# Altium footprint library ic.PcbLib: 23 footprints (part 2 of 2)
Each footprint in its own frame and in the unit in brackets; x right, y up, seen from the top. Pads: shape width x height; smd on the part's side, far side on the other; paste and mask are expansions set on the pad; w line width, h text height; cw(c..) or ccw(c..) is an arc to the next point about the centre after c.
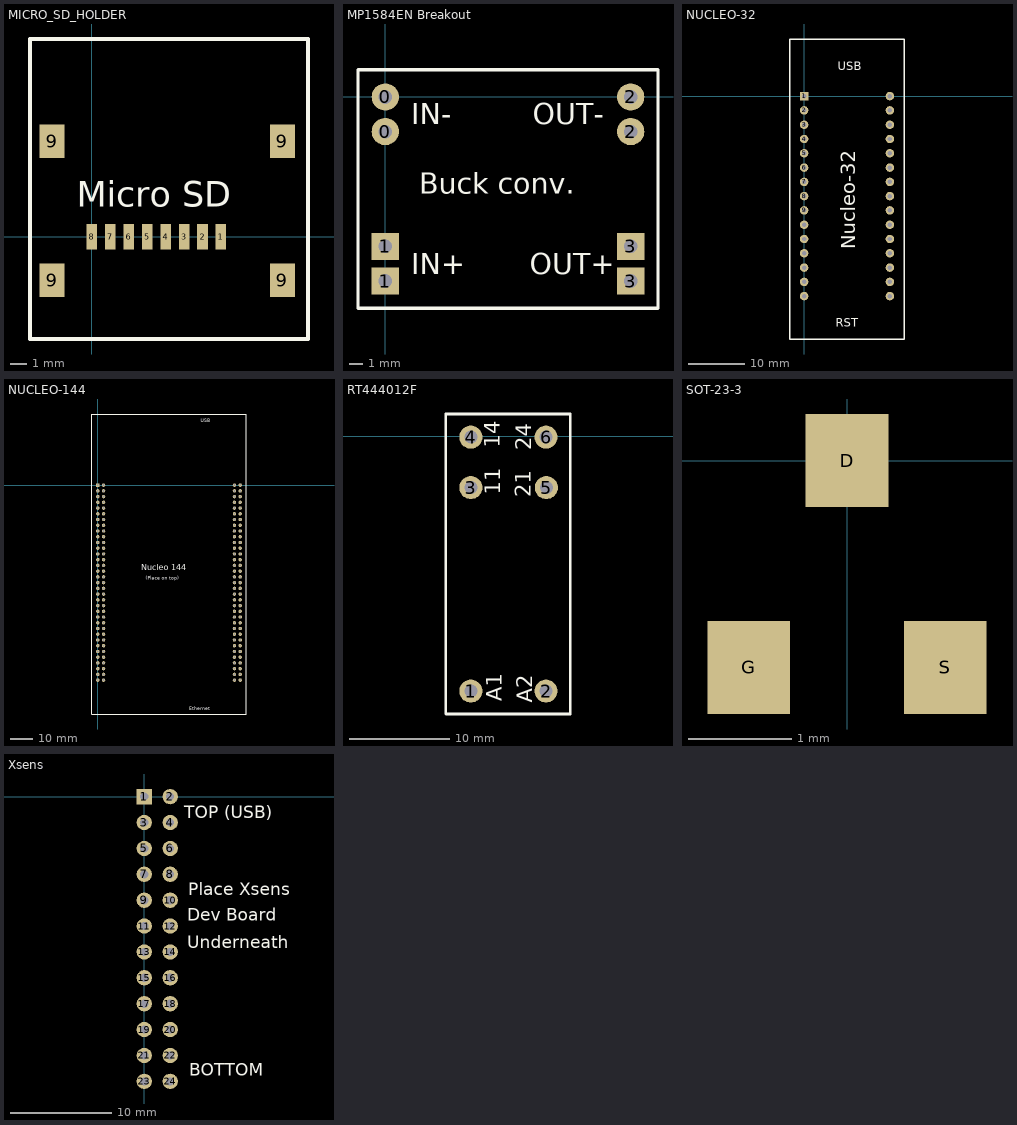
[diagram p1: the footprints below, top view; thin cyan lines are the x and y axes]

## MICRO_SD_HOLDER [mm]
height 1.9
pads (12):
  rect 0.63x1.5 smd: 1(7.7,0) 2(6.6,0) 3(5.5,0) 4(4.4,0) 5(3.3,0) 6(2.2,0) 7(1.1,0) 8(0,0)
  rect 1.5x2 smd: 9(-2.38,-2.6) 9(-2.38,5.7) 9(11.37,-2.6) 9(11.37,5.7)
Top Overlay:
  lines w0.254: -3.7,-6.1 -3.7,11.8 12.9,11.8 12.9,-6.1 -3.7,-6.1
  text "Micro SD" at -0.9,1.8 h1.52
Mechanical 1:
  lines w0.254: -3.7,-4.2 -3.7,-4.1

## MP1584EN Breakout [mm] "Buck Converter"
height 4
pads (8):
  round 2 hole 1: 0(0,-2.54) 0(0,0) 2(18,-2.54) 2(18,0)
  rect 2x2 hole 1: 1(0,-13.5) 1(0,-10.96) 3(18,-13.5) 3(18,-10.96)
Top Overlay:
  lines w0.254: -2,-15.5 -2,2 20,2 20,-15.5 -2,-15.5
  text "Buck conv." at 2.5,-7.1 h1.52
  text "IN-" at 1.9,-2 h1.52
  text "OUT-" at 10.8,-2 h1.52
  text "IN+" at 1.9,-13 h1.52
  text "OUT+" at 10.6,-13 h1.52

## NUCLEO-32 [mm]
pads (30):
  rect 1.5x1.5 hole 0.8: 1(0,0)
  round 1.5 hole 0.8: 2(0,-2.54) 3(0,-5.08) 4(0,-7.62) 5(0,-10.16) 6(0,-12.7) 7(0,-15.24) 8(0,-17.78) 9(0,-20.32) 10(0,-22.86) 11(0,-25.4) 12(0,-27.94) 13(0,-30.48) 14(0,-33.02) 15(0,-35.56) 16(15.24,-35.56) 17(15.24,-33.02) 18(15.24,-30.48) 19(15.24,-27.94) 20(15.24,-25.4) 21(15.24,-22.86) 22(15.24,-20.32) 23(15.24,-17.78) 24(15.24,-15.24) 25(15.24,-12.7) 26(15.24,-10.16) 27(15.24,-7.62) 28(15.24,-5.08) 29(15.24,-2.54) 30(15.24,0)
Top Overlay:
  lines w0.254: -2.54,-43.18 17.78,-43.18 17.78,10.16 -2.54,10.16 -2.54,-43.18
  text "Nucleo-32" at 9.1,-27.2 h2.54
  text "RST" at 5.6,-41 h1.52
  text "USB" at 6,4.6 h1.52
3D body "P3EL-P-008-Nucleo32PCBONLY.stp": height 5, standoff -2.62, extent -1.671,-40.6 16.871,9.692

## NUCLEO-144 [mm]
pads (140):
  rect 1.5x1.5 hole 0.8: 1(0,0)
  round 1.5 hole 0.8: 2(0,-2.54) 3(0,-5.08) 4(0,-7.62) 5(0,-10.16) 6(0,-12.7) 7(0,-15.24) 8(0,-17.78) 9(0,-20.32) 10(0,-22.86) 11(0,-25.4) 12(0,-27.94) 13(0,-30.48) 14(0,-33.02) 15(0,-35.56) 16(0,-38.1) 17(0,-40.64) 18(0,-43.18) 19(0,-45.72) 20(0,-48.26) 21(0,-50.8) 22(0,-53.34) 23(0,-55.88) 24(0,-58.42) 25(0,-60.96) 26(0,-63.5) 27(0,-66.04) 28(0,-68.58) 29(0,-71.12) 30(0,-73.66) 31(0,-76.2) 32(0,-78.74) 33(0,-81.28) 34(0,-83.82) 35(0,-86.36) 36(2.54,-86.36) 37(2.54,-83.82) 38(2.54,-81.28) 39(2.54,-78.74) 40(2.54,-76.2) 41(2.54,-73.66) 42(2.54,-71.12) 43(2.54,-68.58) 44(2.54,-66.04) 45(2.54,-63.5) 46(2.54,-60.96) 47(2.54,-58.42) 48(2.54,-55.88) 49(2.54,-53.34) 50(2.54,-50.8) 51(2.54,-48.26) 52(2.54,-45.72) 53(2.54,-43.18) 54(2.54,-40.64) 55(2.54,-38.1) 56(2.54,-35.56) 57(2.54,-33.02) 58(2.54,-30.48) 59(2.54,-27.94) 60(2.54,-25.4) 61(2.54,-22.86) 62(2.54,-20.32) 63(2.54,-17.78) 64(2.54,-15.24) 65(2.54,-12.7) 66(2.54,-10.16) 67(2.54,-7.62) 68(2.54,-5.08) 69(2.54,-2.54) 70(2.54,0) 71(60.5,0) 72(60.5,-2.54) 73(60.5,-5.08) 74(60.5,-7.62) 75(60.5,-10.16) 76(60.5,-12.7) 77(60.5,-15.24) 78(60.5,-17.78) 79(60.5,-20.32) 80(60.5,-22.86) 81(60.5,-25.4) 82(60.5,-27.94) 83(60.5,-30.48) 84(60.5,-33.02) 85(60.5,-35.56) 86(60.5,-38.1) 87(60.5,-40.64) 88(60.5,-43.18) 89(60.5,-45.72) 90(60.5,-48.26) 91(60.5,-50.8) 92(60.5,-53.34) 93(60.5,-55.88) 94(60.5,-58.42) 95(60.5,-60.96) 96(60.5,-63.5) 97(60.5,-66.04) 98(60.5,-68.58) 99(60.5,-71.12) 100(60.5,-73.66) 101(60.5,-76.2) 102(60.5,-78.74) 103(60.5,-81.28) 104(60.5,-83.82) 105(60.5,-86.36) 106(63.04,-86.36) 107(63.04,-83.82) 108(63.04,-81.28) 109(63.04,-78.74) 110(63.04,-76.2) 111(63.04,-73.66) 112(63.04,-71.12) 113(63.04,-68.58) 114(63.04,-66.04) 115(63.04,-63.5) 116(63.04,-60.96) 117(63.04,-58.42) 118(63.04,-55.88) 119(63.04,-53.34) 120(63.04,-50.8) 121(63.04,-48.26) 122(63.04,-45.72) 123(63.04,-43.18) 124(63.04,-40.64) 125(63.04,-38.1) 126(63.04,-35.56) 127(63.04,-33.02) 128(63.04,-30.48) 129(63.04,-27.94) 130(63.04,-25.4) 131(63.04,-22.86) 132(63.04,-20.32) 133(63.04,-17.78) 134(63.04,-15.24) 135(63.04,-12.7) 136(63.04,-10.16) 137(63.04,-7.62) 138(63.04,-5.08) 139(63.04,-2.54) 140(63.04,0)
Top Overlay:
  lines w0.254: -2.75,-101.36 -2.75,31.5 65.79,31.5 65.79,-101.36 -2.75,-101.36
  text "(Place on top)" at 21.2,-42 h1.52
  text "Nucleo 144" at 19.3,-37.7 h2.54
  text "USB" at 45.6,27.9 h1.52
  text "Ethernet" at 40.4,-99.7 h1.52

## RT444012F [mm] "RELAY GEN PURPOSE DPST 8A 12V"
height 15.7
pads (6):
  round 2.3 hole 1.3: 1(172.466,-25.425) 2(179.966,-25.425) 3(172.466,-5.131) 4(172.466,-0.102) 5(180,-5.131) 6(179.966,-0.102)
Top Overlay:
  lines w0.254: 169.977,-27.686 169.977,2.21 170.205,2.21 173.12,2.21 179.305,2.21 182.372,2.21 182.372,-27.711 181.331,-27.711 171.12,-27.711 170.002,-27.711 169.977,-27.686
  text "24" at 178.511,-1.422 h1.52
  text "14" at 175.336,-1.168 h1.52
  text "21" at 178.46,-6.096 h1.52
  text "11" at 175.387,-5.842 h1.52
  text "A2" at 178.587,-26.594 h1.52
  text "A1" at 175.539,-26.416 h1.52
3D body: height 10, standoff 0.2, extent 170.3,-27.3 182.1,1.9

## SOT-23-3 [mm] "MOSFET"
height 1.1
pads (3):
  rect 0.8x0.9 smd: D(0,0) G(-0.95,-2) S(0.95,-2)

## Xsens [mm]
pads (24):
  rect 1.5x1.5 hole 0.8: 1(0,0)
  round 1.5 hole 0.8: 2(2.54,0) 3(0,-2.54) 4(2.54,-2.54) 5(0,-5.08) 6(2.54,-5.08) 7(0,-7.62) 8(2.54,-7.62) 9(0,-10.16) 10(2.54,-10.16) 11(0,-12.7) 12(2.54,-12.7) 13(0,-15.24) 14(2.54,-15.24) 15(0,-17.78) 16(2.54,-17.78) 17(0,-20.32) 18(2.54,-20.32) 19(0,-22.86) 20(2.54,-22.86) 21(0,-25.4) 22(2.54,-25.4) 23(0,-27.94) 24(2.54,-27.94)
Top Overlay:
  text "Underneath" at 4.2,-14.9 h1.2
  text "Dev Board" at 4.2,-12.2 h1.2
  text "Place Xsens" at 4.3,-9.7 h1.2
  text "BOTTOM" at 4.4,-27.4 h1.2
  text "TOP (USB)" at 3.9,-2.1 h1.2